# EAGLE library part DRV8835 (library bt)
Ti DRV8835 Motor Driver
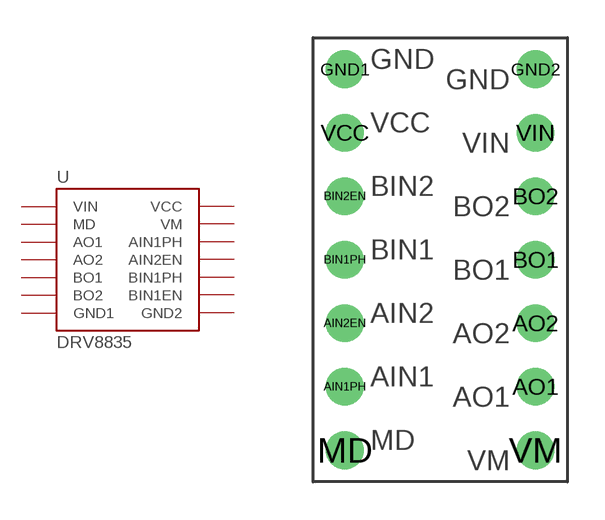
[diagram p10: symbol with the pads of DRV8835BRD; footprint DRV8835BRD]

Designator prefix -

## DRV8835BRD  [DRV8835BRD]
AIN1PH  AIN1PH
AIN2EN  AIN2EN
AO1  AO1
AO2  AO2
BIN1PH  BIN1PH
BIN2EN  BIN1EN
BO1  BO1
BO2  BO2
GND1  GND1
GND2  GND2
MD  MD
VCC  VCC
VIN  VIN
VM  VM

## Footprint DRV8835BRD (pad centres in mm)
drill 1: AIN1PH -3.81,-5.08; AIN2EN -3.81,-2.54; AO1 3.81,-5.08; AO2 3.81,-2.54; BIN1PH -3.81,0; BIN2EN -3.81,2.54; BO1 3.81,0; BO2 3.81,2.54; GND1 -3.81,7.62; GND2 3.81,7.62; MD -3.81,-7.62; VCC -3.81,5.08; VIN 3.81,5.08; VM 3.81,-7.62